# EAGLE library part W25Q40BV (library Semiconductors > Integrated Circuits - ICs > Memory ICs > Flash)
EEPROM 4 Mbit SPI Serial Flash with Dual and Quad SPI
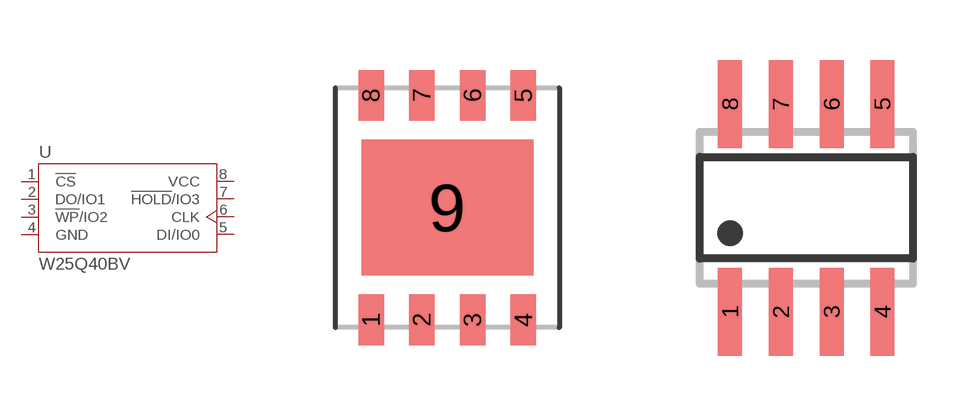
[diagram p2: symbol with the pads of WSON8; footprints WSON8, SO08]

Designator prefix U

## W25Q40BVZP  [WSON8]
1  !CS!  in
2  DO/IO1  out
3  !WP!/IO2  in
4  GND  pwr
5  DI/IO0  in
6  CLK  in
7  !HOLD!/IO3  in
8  VCC  pwr

## W25Q40BVSN  [SO08]
Pads as for WSON8

## W25Q40BVSS  [SO08-SS]
Pads as for WSON8

## W25Q40BVUX  [USON8]
Pads as for WSON8

## Footprint WSON8 (pad centres in mm)
8-WSON 8-Contact Very-very-thin Small Outline No-lead body 6.00 x 5.00 mm
smd 0.635 x 1.27: 1 -1.905,-2.81; 2 -0.635,-2.81; 3 0.635,-2.81; 4 1.905,-2.81; 5 1.905,2.81; 6 0.635,2.81; 7 -0.635,2.81; 8 -1.905,2.81
smd 4.3 x 3.4: 9 0,0

## Footprint SO08 (pad centres in mm)
SMALL OUTLINE INTEGRATED CIRCUIT 150 mil (3.9 mm) body/JEDEC MS-012AA
smd 0.6 x 2.2: 1 -1.905,-2.6; 2 -0.635,-2.6; 3 0.635,-2.6; 4 1.905,-2.6; 5 1.905,2.6; 6 0.635,2.6; 7 -0.635,2.6; 8 -1.905,2.6

## Footprint SO08-SS (pad centres in mm)
SMALL OUTLINE INTEGRATED CIRCUIT 200 MIL BODY WIDTH (5.2MM X 8MM)
smd 0.6 x 2.2: 1 -1.905,-3.33; 2 -0.635,-3.33; 3 0.635,-3.33; 4 1.905,-3.33; 5 1.905,3.33; 6 0.635,3.33; 7 -0.635,3.33; 8 -1.905,3.33

## Footprint USON8 (pad centres in mm)
8-USON body 2.00 x 3.00 mm
smd 0.3 x 0.6: 1 -0.75,-1.375; 2 -0.25,-1.375; 3 0.25,-1.375; 4 0.75,-1.375; 5 0.75,1.375; 6 0.25,1.375; 7 -0.25,1.375; 8 -0.75,1.375